# Altium footprint library PcbLib.PcbLib: 44 footprints (part 3 of 3)
Each footprint in its own frame and in the unit in brackets; x right, y up, seen from the top. Pads: shape width x height; smd on the part's side, far side on the other; paste and mask are expansions set on the pad; w line width, h text height; cw(c..) or ccw(c..) is an arc to the next point about the centre after c.
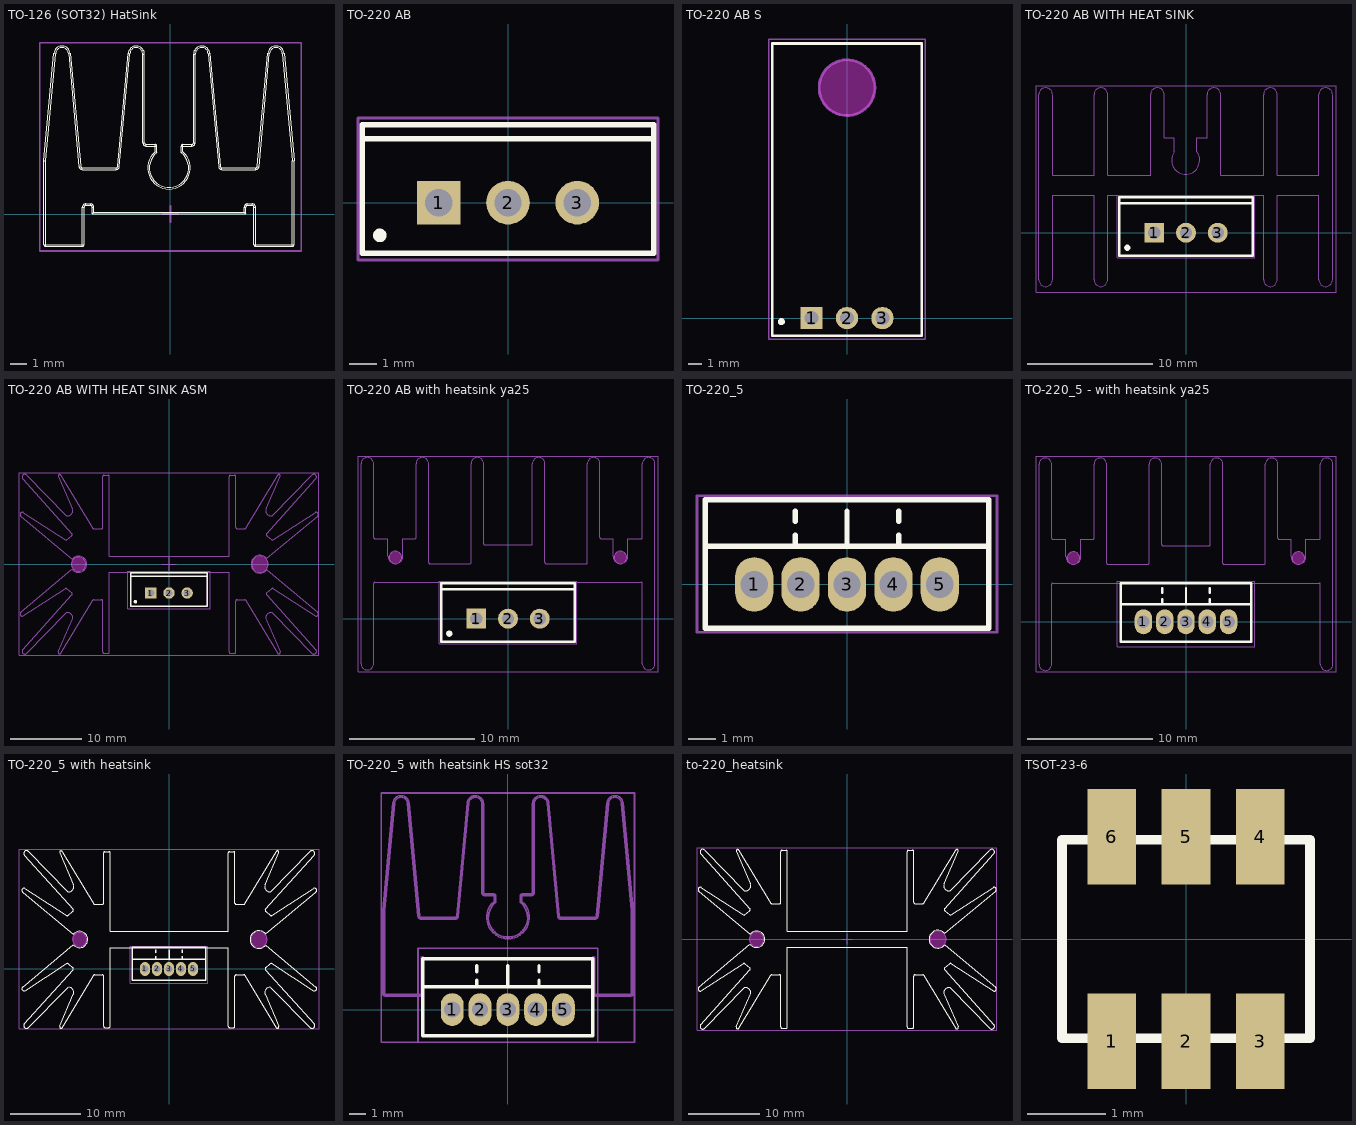
[diagram p2: the footprints below, top view; thin cyan lines are the x and y axes]

## TO-126 (SOT32) HatSink [mm] "Design:Abbas Basereh"
Top Overlay:
  lines w0.013: -7.74,-1.868 ccw(c-7.64,-1.868) -7.64,-1.968 ; -7.74,-1.868 -7.64,-1.868 ; -7.74,-1.868 -7.74,3.282 ; -7.74,3.282 -7.133,9.838 ; -7.74,3.282 -7.64,3.277 ; -7.64,-1.968 -7.64,-1.868 ; -7.64,-1.968 -5.39,-1.968 ; -7.64,-1.868 -7.64,3.277 ; -7.64,-1.868 -5.39,-1.868 ; -7.64,3.277 -7.034,9.829 ; -7.133,9.838 cw(c-6.636,9.792) -6.138,9.838 ; -7.133,9.838 -7.034,9.829 ; -7.034,9.829 cw(c-6.636,9.792) -6.237,9.829 ; -6.237,9.829 -6.138,9.838 ; -6.237,9.829 -5.598,2.914 ; -6.138,9.838 -5.498,2.923 ; -5.598,2.914 ccw(c-5.399,2.932) -5.399,2.732 ; -5.598,2.914 -5.498,2.923 ; -5.498,2.923 ccw(c-5.399,2.932) -5.399,2.832 ; -5.399,2.732 -5.399,2.832 ; -5.399,2.732 -3.327,2.732 ; -5.399,2.832 -3.327,2.832 ; -5.39,-1.968 ccw(c-5.39,-1.868) -5.29,-1.868 ; -5.39,-1.968 -5.39,-1.868 ; -5.39,-1.868 -5.29,-1.868 ; -5.39,-1.868 -5.39,0.432 ; -5.39,0.432 cw(c-5.19,0.432) -5.19,0.632 ; -5.39,0.432 -5.29,0.432 ; -5.29,-1.868 -5.29,0.432 ; -5.29,0.432 cw(c-5.19,0.432) -5.19,0.532 ; -5.19,0.532 -5.19,0.632 ; -5.19,0.532 -4.89,0.532 ; -5.19,0.632 -4.89,0.632 ; -4.89,0.532 cw(c-4.89,0.432) -4.79,0.432 ; -4.89,0.532 -4.89,0.632 ; -4.89,0.632 cw(c-4.89,0.432) -4.69,0.432 ; -4.79,0.032 -4.79,0.432 ; -4.79,0.032 -4.69,0.132 ; -4.79,0.032 4.61,0.032 ; -4.79,0.432 -4.69,0.432 ; -4.69,0.132 -4.69,0.432 ; -4.69,0.132 4.51,0.132 ; -3.327,2.732 ccw(c-3.327,2.932) -3.128,2.914 ; -3.327,2.732 -3.327,2.832 ; -3.327,2.832 ccw(c-3.327,2.932) -3.227,2.923 ; -3.227,2.923 -3.128,2.914 ; -3.227,2.923 -2.588,9.838 ; -3.128,2.914 -2.488,9.829 ; -2.588,9.838 cw(c-2.09,9.792) -1.59,9.792 ; -2.588,9.838 -2.488,9.829 ; -2.488,9.829 cw(c-2.09,9.792) -1.69,9.792 ; -1.69,4.369 ccw(c-1.49,4.369) -1.49,4.169 ; -1.69,4.369 -1.59,4.369 ; -1.69,4.369 -1.69,9.792 ; -1.69,9.792 -1.59,9.792 ; -1.59,4.369 ccw(c-1.49,4.369) -1.49,4.269 ; -1.59,4.369 -1.59,9.792 ; -1.49,4.169 -1.49,4.269 ; -1.49,4.169 -0.94,4.169 ; -1.49,4.269 -0.94,4.269 ; -0.94,3.816 ccw(c-0.09,2.832) 0.76,3.816 ; -0.94,3.816 cw(c-3.386,-1.535) -0.84,3.769 ; -0.94,3.816 -0.94,4.169 ; -0.94,4.169 -0.84,4.169 ; -0.94,4.169 -0.94,4.269 ; -0.94,4.269 cw(c-0.94,4.169) -0.84,4.169 ; -0.84,3.769 ccw(c-0.09,2.832) 0.66,3.769 ; -0.84,3.769 -0.84,4.169 ; 0.66,3.769 cw(c3.206,-1.535) 0.76,3.816 ; 0.66,3.769 0.66,4.169 ; 0.66,4.169 cw(c0.76,4.169) 0.76,4.269 ; 0.66,4.169 0.76,4.169 ; 0.76,3.816 0.76,4.169 ; 0.76,4.169 0.76,4.269 ; 0.76,4.169 1.31,4.169 ; 0.76,4.269 1.31,4.269 ; 1.31,4.169 ccw(c1.31,4.369) 1.51,4.369 ; 1.31,4.169 1.31,4.269 ; 1.31,4.269 ccw(c1.31,4.369) 1.41,4.369 ; 1.41,4.369 1.51,4.369 ; 1.41,4.369 1.41,9.792 ; 1.41,9.792 cw(c1.91,9.792) 2.408,9.838 ; 1.41,9.792 1.51,9.792 ; 1.51,4.369 1.51,9.792 ; 1.51,9.792 cw(c1.91,9.792) 2.308,9.829 ; 2.308,9.829 2.408,9.838 ; 2.308,9.829 2.948,2.914 ; 2.408,9.838 3.047,2.923 ; 2.948,2.914 ccw(c3.147,2.932) 3.147,2.732 ; 2.948,2.914 3.047,2.923 ; 3.047,2.923 ccw(c3.147,2.932) 3.147,2.832 ; 3.147,2.732 3.147,2.832 ; 3.147,2.732 5.219,2.732 ; 3.147,2.832 5.219,2.832 ; 4.51,0.132 4.51,0.432 ; 4.51,0.132 4.61,0.032 ; 4.51,0.432 cw(c4.71,0.432) 4.71,0.632 ; 4.51,0.432 4.61,0.432 ; 4.61,0.032 4.61,0.432 ; 4.61,0.432 cw(c4.71,0.432) 4.71,0.532 ; 4.71,0.532 4.71,0.632 ; 4.71,0.532 5.01,0.532 ; 4.71,0.632 5.01,0.632 ; 5.01,0.532 cw(c5.01,0.432) 5.11,0.432 ; 5.01,0.532 5.01,0.632 ; 5.01,0.632 cw(c5.01,0.432) 5.21,0.432 ; 5.11,-1.868 ccw(c5.21,-1.868) 5.21,-1.968 ; 5.11,-1.868 5.21,-1.868 ; 5.11,-1.868 5.11,0.432 ; 5.11,0.432 5.21,0.432 ; 5.21,-1.968 5.21,-1.868 ; 5.21,-1.968 7.46,-1.968 ; 5.21,-1.868 5.21,0.432 ; 5.21,-1.868 7.46,-1.868 ; 5.219,2.732 ccw(c5.219,2.932) 5.418,2.914 ; 5.219,2.732 5.219,2.832 ; 5.219,2.832 ccw(c5.219,2.932) 5.318,2.923 ; 5.318,2.923 5.418,2.914 ; 5.318,2.923 5.958,9.838 ; 5.418,2.914 6.057,9.829 ; 5.958,9.838 cw(c6.455,9.792) 6.953,9.838 ; 5.958,9.838 6.057,9.829 ; 6.057,9.829 cw(c6.455,9.792) 6.854,9.829 ; 6.854,9.829 6.953,9.838 ; 6.854,9.829 7.46,3.277 ; 6.953,9.838 7.56,3.282 ; 7.46,-1.968 ccw(c7.46,-1.868) 7.56,-1.868 ; 7.46,-1.968 7.46,-1.868 ; 7.46,-1.868 7.46,3.277 ; 7.46,-1.868 7.56,-1.868 ; 7.46,3.277 7.56,3.282 ; 7.56,-1.868 7.56,3.282
Mechanical 15:
  lines w0.1: -0.5,0 0.5,0 ; 0,-0.5 0,0.5 ; -8,-2.25 8,-2.25 8,10.5 -8,10.5 -8,-2.25
3D body "User Library-Heatsink-57AS.STEP": height 25, standoff 0, extent -7.65,-1.905 7.65,10.354

## TO-220 AB [mm] "Epoxy meets UL94, V0-Design:Abbas Basereh"
height 17
pads (3):
  rect 1.6x1.6 hole 1: 1(-2.54,0)
  round 1.6 hole 1: 2(0,0) 3(2.54,0)
Top Overlay:
  circle w0.25: c-4.7,-1.2 r0.125
  lines w0.2: -5.35,2.35 5.35,2.35 ; -5.35,-1.85 5.35,-1.85 5.35,2.85 -5.35,2.85 -5.35,-1.85
Mechanical 13:
  lines w0.1: -5.35,-1.85 -5.35,2.85 5.35,2.85 5.35,-1.85 -5.35,-1.85
Mechanical 15:
  lines w0.1: -0.5,0 0.5,0 ; 0,-0.5 0,0.5 ; -5.5,-2.1 -5.5,3.1 5.5,3.1 5.5,-2.1 -5.5,-2.1
3D body "SW3DPS-TO-220HS-DEFAULT.STEP": height 18.54, standoff -3.81, extent -5.08,-1.651 5.08,2.921

## TO-220 AB S [mm] "Epoxy meets UL94, V0-Design:Abbas Basereh"
height 17
pads (3):
  rect 1.6x1.6 hole 1: 1(-2.54,0)
  round 1.6 hole 1: 2(0,0) 3(2.54,0)
Top Overlay:
  circle w0.25: c-4.699,-0.254 r0.125
  lines w0.2: -5.35,-1.27 5.35,-1.27 5.35,19.685 -5.35,19.685 -5.35,-1.27
Keep-Out Layer:
  board cut-out: -2,16.5 -2,16.697 -1.923,17.083 -1.772,17.447 -1.553,17.775 -1.275,18.053 -0.947,18.272 -0.583,18.423 -0.197,18.5 0.197,18.5 0.583,18.423 0.947,18.272 1.275,18.053 1.553,17.775 1.772,17.447 1.923,17.083 2,16.697 2,16.5 1.999,16.303 1.922,15.917 1.771,15.554 1.552,15.226 1.274,14.948 0.946,14.729 0.583,14.578 0.197,14.5 0,14.5 -0.197,14.5 -0.583,14.577 -0.947,14.728 -1.275,14.947 -1.554,15.225 -1.772,15.553 -1.923,15.917 -2,16.303
Mechanical 1:
  circle w0.2: c0,16.51 r2
Mechanical 13:
  lines w0.1: -5.35,-1.27 -5.35,19.685 5.35,19.685 5.35,-1.27 -5.35,-1.27
Mechanical 15:
  lines w0.1: -0.5,0 0.5,0 ; 0,-0.5 0,0.5 ; -5.6,-1.5 5.6,-1.5 5.6,20 -5.6,20 -5.6,-1.5
3D body "SW3DPS-TO-220-DEFAULT.STEP": height 4.2, standoff -3, extent -5.08,0 5.08,19.49

## TO-220 AB WITH HEAT SINK [mm] "Epoxy meets UL94, V0-Design:Abbas Basereh"
height 17
pads (3):
  rect 1.6x1.6 hole 1: 1(-2.54,0)
  round 1.6 hole 1: 2(0,0) 3(2.54,0)
Top Overlay:
  circle w0.25: c-4.7,-1.2 r0.125
  lines w0.2: -5.35,2.35 5.35,2.35 ; -5.35,-1.85 -5.35,2.85 5.35,2.85 5.35,-1.85 -5.35,-1.85
Mechanical 1:
  lines w0.1: -6.029,2.996 5.971,2.996 ; -11.779,-3.754 ccw(c-11.229,-3.754) -10.679,-3.754 -10.679,2.996 -7.359,2.996 -7.359,-3.754 ccw(c-6.809,-3.754) -6.259,-3.754 -6.259,2.996 6.201,2.996 6.201,-3.754 ccw(c6.751,-3.754) 7.301,-3.754 7.301,2.996 10.621,2.996 10.621,-3.754 ccw(c11.171,-3.754) 11.721,-3.754 11.721,11.046 ccw(c11.171,11.046) 10.621,11.046 10.621,4.596 7.301,4.596 7.301,11.046 ccw(c6.751,11.046) 6.201,11.046 6.201,4.596 2.781,4.596 2.781,11.046 ccw(c2.231,11.046) 1.681,11.046 1.681,7.596 0.871,7.596 0.871,6.471 cw(c-0.029,5.796) -0.929,6.471 -0.929,7.596 -1.739,7.596 -1.739,11.046 ccw(c-2.289,11.046) -2.839,11.046 -2.839,4.596 -6.259,4.596 -6.259,11.046 ccw(c-6.809,11.046) -7.359,11.046 -7.359,4.596 -10.679,4.596 -10.679,11.046 ccw(c-11.229,11.046) -11.779,11.046 -11.779,-3.754
Mechanical 13:
  lines w0.1: -5.35,-1.85 5.35,-1.85 5.35,2.85 -5.35,2.85 -5.35,-1.85
Mechanical 15:
  lines w0.1: -0.5,0 0.5,0 ; 0,-0.5 0,0.5 ; -12,-4.75 12,-4.75 12,11.75 -12,11.75 -12,-4.75 ; -5.5,-2 -5.5,3 5.5,3 5.5,-2 -5.5,-2
3D body "User Library-to-220_heatsink_asm.STEP": height 25, standoff -5.48, extent -11.75,-4.6 11.75,11.3

## TO-220 AB WITH HEAT SINK ASM [mm] "-Design:Abbas Basereh"
pads (3):
  rect 1.6x1.6 hole 1: 1(-2.54,-4.064)
  round 1.6 hole 1: 2(0,-4.064) 3(2.54,-4.064)
Top Overlay:
  circle w0.25: c-4.7,-5.264 r0.125
  lines w0.2: -5.35,-1.714 5.35,-1.714 ; -5.35,-5.914 -5.35,-1.214 5.35,-1.214 5.35,-5.914 -5.35,-5.914
Keep-Out Layer:
  board cut-out: 13.887,-0.029 13.889,0.08 13.851,0.295 13.771,0.498 13.653,0.682 13.502,0.839 13.322,0.964 13.122,1.051 12.909,1.098 12.8,1.1 12.6,1.1 12.497,1.092 12.297,1.037 12.112,0.943 11.948,0.815 11.813,0.658 11.711,0.477 11.647,0.28 11.622,0.075 11.629,-0.029 11.629,-0.14 11.673,-0.358 11.758,-0.564 11.881,-0.749 12.039,-0.906 12.223,-1.029 12.429,-1.114 12.647,-1.158 12.758,-1.158 12.8,-1.158 12.909,-1.156 13.122,-1.109 13.322,-1.022 13.502,-0.897 13.653,-0.74 13.771,-0.556 13.851,-0.353 13.889,-0.138
  board cut-out: -11.663,-0.029 -11.659,0.068 -11.688,0.259 -11.754,0.44 -11.854,0.606 -11.985,0.748 -12.141,0.863 -12.316,0.945 -12.503,0.991 -12.6,0.995 -12.8,0.995 -12.893,0.99 -13.075,0.945 -13.243,0.865 -13.393,0.753 -13.519,0.615 -13.615,0.454 -13.677,0.278 -13.705,0.093 -13.7,0 -13.7,-0.098 -13.662,-0.292 -13.586,-0.474 -13.477,-0.637 -13.337,-0.777 -13.174,-0.886 -12.992,-0.962 -12.798,-1 -12.7,-1 -12.6,-1 -12.508,-1 -12.327,-0.964 -12.156,-0.893 -12.003,-0.791 -11.872,-0.66 -11.77,-0.507 -11.699,-0.336 -11.663,-0.155 -11.663,-0.063
Mechanical 1:
  circle w0.013: c-12.663,-0.029 r1
  circle w0.013: c12.737,-0.029 r1.15
  lines w0.1: -13.589,-0.762 -20.735,-6.764 ccw(c-20.543,-6.994) -20.38,-7.246 -14.529,-3.45 cw(c-14.42,-3.617) -14.292,-3.464 -13.616,-4.027 cw(c-13.745,-4.181) -13.596,-4.314 -20.482,-11.986 ccw(c-20.199,-12.24) -19.927,-12.507 -14.354,-6.827 cw(c-14.189,-7.519) -13.535,-7.802 -15.485,-12.313 ccw(c-15.301,-12.392) -15.13,-12.495 -10.676,-5.096 cw(c-10.505,-5.199) -10.505,-4.999 -9.469,-4.999 cw(c-9.469,-5.199) -9.269,-5.199 -9.269,-12.302 ccw(c-9.069,-12.302) -9.069,-12.502 -8.531,-12.502 ccw(c-8.531,-12.302) -8.331,-12.302 -8.331,-1.174 8.405,-1.174 8.405,-12.302 ccw(c8.605,-12.302) 8.605,-12.502 9.143,-12.502 ccw(c9.143,-12.302) 9.343,-12.302 9.343,-5.199 cw(c9.543,-5.199) 9.543,-4.999 10.579,-4.999 cw(c10.579,-5.199) 10.75,-5.096 15.204,-12.495 ccw(c15.376,-12.392) 15.559,-12.313 13.61,-7.802 cw(c14.263,-7.519) 14.428,-6.827 20.002,-12.507 ccw(c20.273,-12.24) 20.556,-11.986 13.67,-4.314 cw(c13.819,-4.181) 13.691,-4.027 14.366,-3.464 cw(c14.494,-3.617) 14.603,-3.45 20.454,-7.246 ccw(c20.617,-6.994) 20.809,-6.764 13.697,-0.83 cw(c12.737,-0.029) 13.697,0.772 20.809,6.706 ccw(c20.617,6.936) 20.454,7.188 14.603,3.392 cw(c14.494,3.56) 14.366,3.406 13.691,3.969 cw(c13.819,4.123) 13.67,4.257 20.556,11.928 ccw(c20.273,12.182) 20.002,12.449 14.429,6.769 cw(c14.263,7.461) 13.61,7.744 15.559,12.255 ccw(c15.376,12.334) 15.204,12.437 10.75,5.038 cw(c10.579,5.141) 10.579,4.941 9.543,4.941 cw(c9.543,5.141) 9.343,5.141 9.343,12.244 ccw(c9.143,12.244) 9.143,12.444 8.605,12.444 ccw(c8.605,12.244) 8.405,12.244 8.405,1.116 -8.331,1.116 -8.331,12.244 ccw(c-8.531,12.244) -8.531,12.444 -9.069,12.444 ccw(c-9.069,12.244) -9.269,12.244 -9.269,5.141 cw(c-9.469,5.141) -9.469,4.941 -10.505,4.941 cw(c-10.505,5.141) -10.676,5.038 -15.13,12.437 ccw(c-15.301,12.334) -15.485,12.255 -13.535,7.744 cw(c-14.189,7.461) -14.354,6.769 -19.927,12.449 ccw(c-20.199,12.182) -20.482,11.928 -13.596,4.257 cw(c-13.745,4.123) -13.616,3.969 -14.292,3.406 cw(c-14.42,3.56) -14.529,3.392 -20.38,7.188 ccw(c-20.543,6.936) -20.735,6.706 -13.535,0.699 ; -13.565,-0.743 ccw(c-12.663,-0.029) -13.547,0.706
Mechanical 13:
  lines w0.1: -5.35,-5.914 5.35,-5.914 5.35,-1.214 -5.35,-1.214 -5.35,-5.914
Mechanical 15:
  lines w0.1: -1,0 1,0 ; -0.5,-4.064 0.5,-4.064 ; 0,-4.564 0,-3.564 ; 0,-1 0,1 ; -21,-12.75 -21,12.75 21,12.75 21,-12.75 -21,-12.75 ; -5.75,-6.25 -5.75,-1 5.75,-1 5.75,-6.25 -5.75,-6.25
3D body "SW3DPS-TO-220HS-DEFAULT.STEP": height 21.04, standoff -1.31, extent -5.08,-5.842 5.08,-1.27
3D body "User Library-TO220_Heatsink.STEP": height 50.8, standoff -3.5, extent -20.88,-12.592 20.878,12.592

## TO-220 AB with heatsink ya25 [mm] "Epoxy meets UL94, V0-Design:Abbas Basereh"
height 17
pads (3):
  rect 1.6x1.6 hole 1: 1(-2.54,0)
  round 1.6 hole 1: 2(0,0) 3(2.54,0)
Top Overlay:
  circle w0.25: c-4.7,-1.2 r0.125
  lines w0.2: -5.35,2.35 5.35,2.35 ; -5.35,-1.85 5.35,-1.85 5.35,2.85 -5.35,2.85 -5.35,-1.85
Keep-Out Layer:
  board cut-out: -8.5,4.9 -8.5,4.999 -8.576,5.183 -8.717,5.324 -8.901,5.4 -9,5.4 -9.099,5.4 -9.283,5.324 -9.424,5.183 -9.5,4.999 -9.5,4.9 -9.5,4.801 -9.424,4.617 -9.283,4.476 -9.099,4.4 -9,4.4 -8.901,4.4 -8.717,4.476 -8.576,4.617 -8.5,4.801 -8.5,4.9
  board cut-out: 9.5,4.9 9.5,4.999 9.424,5.183 9.283,5.324 9.099,5.4 9,5.4 8.901,5.4 8.717,5.324 8.576,5.183 8.5,4.999 8.5,4.9 8.5,4.801 8.576,4.617 8.717,4.476 8.901,4.4 9,4.4 9.099,4.4 9.283,4.476 9.424,4.617 9.5,4.801 9.5,4.9
Mechanical 1:
  circle w0.1: c-9,4.9 r0.5
  circle w0.1: c9,4.9 r0.5
  lines w0.1: -11.75,-3.6 ccw(c-11.25,-3.6) -11.25,-4.1 ccw(c-11.25,-3.6) -10.75,-3.6 -10.75,2.8 cw(c-10.65,2.8) -10.65,2.9 10.65,2.9 cw(c10.65,2.8) 10.75,2.8 10.75,-3.6 ccw(c11.25,-3.6) 11.25,-4.1 ccw(c11.25,-3.6) 11.75,-3.6 11.75,12.4 ccw(c11.25,12.4) 11.25,12.9 ccw(c11.25,12.4) 10.75,12.4 10.75,6.5 cw(c10.65,6.5) 10.65,6.4 9.6,6.4 9.6,5 cw(c9,5) 9,4.4 cw(c9,5) 8.4,5 8.4,6.4 7.45,6.4 cw(c7.45,6.5) 7.35,6.5 7.35,12.4 ccw(c6.85,12.4) 6.85,12.9 ccw(c6.85,12.4) 6.35,12.4 6.35,4.5 cw(c6.25,4.5) 6.25,4.4 3.05,4.4 cw(c3.05,4.5) 2.95,4.5 2.95,12.4 ccw(c2.45,12.4) 2.45,12.9 ccw(c2.45,12.4) 1.95,12.4 1.95,6 cw(c1.85,6) 1.85,5.9 -1.85,5.9 cw(c-1.85,6) -1.95,6 -1.95,12.4 ccw(c-2.45,12.4) -2.45,12.9 ccw(c-2.45,12.4) -2.95,12.4 -2.95,4.5 cw(c-3.05,4.5) -3.05,4.4 -6.25,4.4 cw(c-6.25,4.5) -6.35,4.5 -6.35,12.4 ccw(c-6.85,12.4) -6.85,12.9 ccw(c-6.85,12.4) -7.35,12.4 -7.35,6.5 cw(c-7.45,6.5) -7.45,6.4 -8.4,6.4 -8.4,5 cw(c-9,5) -9,4.4 cw(c-9,5) -9.6,5 -9.6,6.4 -10.65,6.4 cw(c-10.65,6.5) -10.75,6.5 -10.75,12.4 ccw(c-11.25,12.4) -11.25,12.9 ccw(c-11.25,12.4) -11.75,12.4 -11.75,-3.6
Mechanical 13:
  lines w0.1: -5.35,-1.85 -5.35,2.85 5.35,2.85 5.35,-1.85 -5.35,-1.85
Mechanical 15:
  lines w0.1: -0.5,0 0.5,0 ; 0,-0.5 0,0.5 ; -12,-4.25 -12,13 12,13 12,-4.25 -12,-4.25 ; -5.5,-2 -5.5,3 5.5,3 5.5,-2 -5.5,-2
3D body "User Library-YA25.STEP": height 25, standoff -4, extent -11.75,-4.078 11.75,12.922
3D body "SW3DPS-TO-220HS-DEFAULT.STEP": height 21.04, standoff -1.31, extent -5.08,-1.651 5.08,2.921

## TO-220_5 [mm] "TO-220 STRAIGHT, T05A pitch: 1.7mm-Designer Abbas Basereh"
height 7.62
pads (5):
  oval 1.4x2 hole 1: 1(-3.4,0) 2(-1.7,0) 3(0,0) 4(1.7,0) 5(3.4,0)
Top Overlay:
  lines w0.2: -5.2,1.4 5.2,1.4 ; -1.905,1.424 -1.905,1.805 ; -1.905,2.313 -1.905,2.694 ; 0,1.424 0,2.694 ; 1.905,1.424 1.905,1.805 ; 1.905,2.313 1.905,2.694 ; -5.2,-1.6 5.2,-1.6 5.2,3.1 -5.2,3.1 -5.2,-1.6
Mechanical 15:
  lines w0.1: -5.5,-1.75 5.5,-1.75 5.5,3.25 -5.5,3.25 -5.5,-1.75
3D body "User Library-TO220-5T PCB.step": height 17.05, standoff -6.52, extent -5.06,-1.55 5.06,2.907

## TO-220_5 - with heatsink ya25 [mm] "TO-220 STRAIGHT, T05A pitch: 1.7mm-Designer Abbas Basereh"
height 17.62
pads (5):
  oval 1.4x2 hole 1: 1(-3.4,0) 2(-1.7,0) 3(0,0) 4(1.7,0) 5(3.4,0)
Top Overlay:
  lines w0.2: -5.2,1.4 5.2,1.4 ; -1.905,1.424 -1.905,1.805 ; -1.905,2.313 -1.905,2.694 ; 0,1.424 0,2.694 ; 1.905,1.424 1.905,1.805 ; 1.905,2.313 1.905,2.694 ; -5.2,-1.6 5.2,-1.6 5.2,3.1 -5.2,3.1 -5.2,-1.6
Keep-Out Layer:
  board cut-out: 9.5,5.1 9.5,5.199 9.424,5.383 9.283,5.524 9.099,5.6 9,5.6 8.901,5.6 8.717,5.524 8.576,5.383 8.5,5.199 8.5,5.1 8.5,5.001 8.576,4.817 8.717,4.676 8.901,4.6 9,4.6 9.099,4.6 9.283,4.676 9.424,4.817 9.5,5.001 9.5,5.1
  board cut-out: -8.5,5.1 -8.5,5.199 -8.576,5.383 -8.717,5.524 -8.901,5.6 -9,5.6 -9.099,5.6 -9.283,5.524 -9.424,5.383 -9.5,5.199 -9.5,5.1 -9.5,5.001 -9.424,4.817 -9.283,4.676 -9.099,4.6 -9,4.6 -8.901,4.6 -8.717,4.676 -8.576,4.817 -8.5,5.001 -8.5,5.1
Mechanical 1:
  circle w0.1: c9,5.1 r0.5
  circle w0.1: c-9,5.1 r0.5
  lines w0.1: -11.75,-3.4 ccw(c-11.25,-3.4) -11.25,-3.9 ccw(c-11.25,-3.4) -10.75,-3.4 -10.75,3 cw(c-10.65,3) -10.65,3.1 10.65,3.1 cw(c10.65,3) 10.75,3 10.75,-3.4 ccw(c11.25,-3.4) 11.25,-3.9 ccw(c11.25,-3.4) 11.75,-3.4 11.75,12.6 ccw(c11.25,12.6) 11.25,13.1 ccw(c11.25,12.6) 10.75,12.6 10.75,6.7 cw(c10.65,6.7) 10.65,6.6 9.6,6.6 9.6,5.2 cw(c9,5.2) 9,4.6 cw(c9,5.2) 8.4,5.2 8.4,6.6 7.45,6.6 cw(c7.45,6.7) 7.35,6.7 7.35,12.6 ccw(c6.85,12.6) 6.85,13.1 ccw(c6.85,12.6) 6.35,12.6 6.35,4.7 cw(c6.25,4.7) 6.25,4.6 3.05,4.6 cw(c3.05,4.7) 2.95,4.7 2.95,12.6 ccw(c2.45,12.6) 2.45,13.1 ccw(c2.45,12.6) 1.95,12.6 1.95,6.2 cw(c1.85,6.2) 1.85,6.1 -1.85,6.1 cw(c-1.85,6.2) -1.95,6.2 -1.95,12.6 ccw(c-2.45,12.6) -2.45,13.1 ccw(c-2.45,12.6) -2.95,12.6 -2.95,4.7 cw(c-3.05,4.7) -3.05,4.6 -6.25,4.6 cw(c-6.25,4.7) -6.35,4.7 -6.35,12.6 ccw(c-6.85,12.6) -6.85,13.1 ccw(c-6.85,12.6) -7.35,12.6 -7.35,6.7 cw(c-7.45,6.7) -7.45,6.6 -8.4,6.6 -8.4,5.2 cw(c-9,5.2) -9,4.6 cw(c-9,5.2) -9.6,5.2 -9.6,6.6 -10.65,6.6 cw(c-10.65,6.7) -10.75,6.7 -10.75,12.6 ccw(c-11.25,12.6) -11.25,13.1 ccw(c-11.25,12.6) -11.75,12.6 -11.75,-3.4
Mechanical 15:
  lines w0.1: -12,-4 12,-4 12,13.25 -12,13.25 -12,-4 ; -5.5,-2 5.5,-2 5.5,3.25 -5.5,3.25 -5.5,-2
3D body "User Library-TO220-5T PCB.step": height 21.25, standoff -2.32, extent -5.06,-1.55 5.06,2.907
3D body "User Library-YA25.STEP": height 25, standoff -4, extent -11.75,-3.9 11.75,13.1

## TO-220_5 with heatsink [mm] "TO-220 STRAIGHT, T05A pitch: 1.7mm-Designer Abbas Basereh"
height 15
pads (5):
  oval 1.4x2 hole 1: 1(-3.4,0) 2(-1.7,0) 3(0,0) 4(1.7,0) 5(3.4,0)
Top Overlay:
  lines w0.013: -13.589,3.438 -20.735,-2.564 ccw(c-20.543,-2.794) -20.38,-3.046 -14.529,0.75 cw(c-14.42,0.583) -14.292,0.736 -13.616,0.173 cw(c-13.745,0.019) -13.596,-0.114 -20.482,-7.786 ccw(c-20.199,-8.04) -19.927,-8.307 -14.354,-2.627 cw(c-14.189,-3.319) -13.535,-3.602 -15.485,-8.113 ccw(c-15.301,-8.192) -15.13,-8.295 -10.676,-0.896 cw(c-10.505,-0.999) -10.505,-0.799 -9.469,-0.799 cw(c-9.469,-0.999) -9.269,-0.999 -9.269,-8.102 ccw(c-9.069,-8.102) -9.069,-8.302 -8.531,-8.302 ccw(c-8.531,-8.102) -8.331,-8.102 -8.331,3.026 8.405,3.026 8.405,-8.102 ccw(c8.605,-8.102) 8.605,-8.302 9.143,-8.302 ccw(c9.143,-8.102) 9.343,-8.102 9.343,-0.999 cw(c9.543,-0.999) 9.543,-0.799 10.579,-0.799 cw(c10.579,-0.999) 10.75,-0.896 15.204,-8.295 ccw(c15.376,-8.192) 15.559,-8.113 13.61,-3.602 cw(c14.263,-3.319) 14.428,-2.627 20.002,-8.307 ccw(c20.273,-8.04) 20.556,-7.786 13.67,-0.114 cw(c13.819,0.019) 13.691,0.173 14.366,0.736 cw(c14.494,0.583) 14.603,0.75 20.454,-3.046 ccw(c20.617,-2.794) 20.809,-2.564 13.697,3.37 cw(c12.737,4.171) 13.697,4.972 20.809,10.906 ccw(c20.617,11.136) 20.454,11.388 14.603,7.592 cw(c14.494,7.76) 14.366,7.606 13.691,8.169 cw(c13.819,8.323) 13.67,8.457 20.556,16.128 ccw(c20.273,16.382) 20.002,16.649 14.429,10.969 cw(c14.263,11.661) 13.61,11.944 15.559,16.455 ccw(c15.376,16.534) 15.204,16.637 10.75,9.238 cw(c10.579,9.341) 10.579,9.141 9.543,9.141 cw(c9.543,9.341) 9.343,9.341 9.343,16.444 ccw(c9.143,16.444) 9.143,16.644 8.605,16.644 ccw(c8.605,16.444) 8.405,16.444 8.405,5.316 -8.331,5.316 -8.331,16.444 ccw(c-8.531,16.444) -8.531,16.644 -9.069,16.644 ccw(c-9.069,16.444) -9.269,16.444 -9.269,9.341 cw(c-9.469,9.341) -9.469,9.141 -10.505,9.141 cw(c-10.505,9.341) -10.676,9.238 -15.13,16.637 ccw(c-15.301,16.534) -15.485,16.455 -13.535,11.944 cw(c-14.189,11.661) -14.354,10.969 -19.927,16.649 ccw(c-20.199,16.382) -20.482,16.128 -13.596,8.457 cw(c-13.745,8.323) -13.616,8.169 -14.292,7.606 cw(c-14.42,7.76) -14.529,7.592 -20.38,11.388 ccw(c-20.543,11.136) -20.735,10.906 -13.535,4.899 ; -13.565,3.457 ccw(c-12.663,4.171) -13.547,4.906
  lines w0.2: -5.2,1.4 5.2,1.4 ; -1.905,1.424 -1.905,1.805 ; -1.905,2.313 -1.905,2.694 ; 0,1.424 0,2.694 ; 1.905,1.424 1.905,1.805 ; 1.905,2.313 1.905,2.694 ; -5.2,-1.6 5.2,-1.6 5.2,3.1 -5.2,3.1 -5.2,-1.6
Keep-Out Layer:
  board cut-out: -11.663,4.171 -11.659,4.268 -11.688,4.459 -11.754,4.641 -11.854,4.806 -11.985,4.949 -12.14,5.063 -12.316,5.145 -12.503,5.191 -12.6,5.195 -12.8,5.195 -12.893,5.19 -13.074,5.145 -13.243,5.065 -13.393,4.953 -13.519,4.815 -13.615,4.654 -13.677,4.478 -13.705,4.293 -13.7,4.2 -13.7,4.102 -13.661,3.908 -13.586,3.726 -13.477,3.563 -13.337,3.423 -13.174,3.314 -12.992,3.239 -12.798,3.2 -12.7,3.2 -12.6,3.2 -12.508,3.2 -12.327,3.236 -12.156,3.307 -12.003,3.409 -11.872,3.54 -11.769,3.693 -11.699,3.864 -11.663,4.045 -11.663,4.137
  board cut-out: 13.887,4.171 13.889,4.28 13.851,4.495 13.771,4.698 13.653,4.882 13.502,5.039 13.323,5.164 13.122,5.251 12.909,5.298 12.8,5.3 12.6,5.3 12.497,5.292 12.297,5.237 12.112,5.143 11.948,5.015 11.813,4.858 11.711,4.677 11.647,4.48 11.622,4.275 11.629,4.171 11.629,4.06 11.673,3.842 11.758,3.636 11.881,3.452 12.039,3.294 12.224,3.171 12.429,3.086 12.647,3.042 12.758,3.042 12.8,3.042 12.909,3.044 13.122,3.091 13.323,3.178 13.502,3.303 13.653,3.46 13.771,3.644 13.851,3.847 13.889,4.062
Mechanical 1:
  circle w0.013: c-12.663,4.171 r1
  circle w0.013: c12.737,4.171 r1.15
Mechanical 15:
  lines w0.1: -21.25,-8.5 21.25,-8.5 21.25,17 -21.25,17 -21.25,-8.5 ; -5.5,-2 5.5,-2 5.5,3.25 -5.5,3.25 -5.5,-2
3D body "User Library-TO220-5T PCB.step": height 17.05, standoff -6.52, extent -5.06,-1.55 5.06,2.907
3D body "User Library-TO220_Heatsink.STEP": height 51.8, standoff -2.5, extent -20.88,-8.392 20.878,16.792

## TO-220_5 with heatsink HS sot32 [mm] "TO-220 STRAIGHT, T05A pitch: 1.7mm-Designer Abbas Basereh"
height 7.62
pads (5):
  oval 1.4x2 hole 1: 1(-3.4,0) 2(-1.7,0) 3(0,0) 4(1.7,0) 5(3.4,0)
Top Overlay:
  lines w0.2: -5.2,1.4 5.2,1.4 ; -1.905,1.424 -1.905,1.805 ; -1.905,2.313 -1.905,2.694 ; 0,1.424 0,2.694 ; 1.905,1.424 1.905,1.805 ; 1.905,2.313 1.905,2.694 ; -5.2,-1.6 -5.2,3.1 5.2,3.1 5.2,-1.6 -5.2,-1.6
Mechanical 1:
  lines w0.1: -5.29,3.232 -5.29,0.932 ; -5.19,3.232 -5.19,0.932 ; 5.21,3.232 5.21,0.932 ; 5.31,3.232 5.31,0.932 ; -7.64,0.932 ccw(c-7.54,0.932) -7.54,0.832 ; -7.64,0.932 -7.54,0.932 ; -7.64,0.932 -7.64,6.082 ; -7.64,6.082 -7.033,12.638 ; -7.64,6.082 -7.54,6.077 ; -7.54,0.832 -7.54,0.932 ; -7.54,0.832 -5.29,0.832 ; -7.54,0.932 -7.54,6.077 ; -7.54,0.932 -5.29,0.932 ; -7.54,6.077 -6.934,12.629 ; -7.033,12.638 cw(c-6.536,12.592) -6.038,12.638 ; -7.033,12.638 -6.934,12.629 ; -6.934,12.629 cw(c-6.536,12.592) -6.137,12.629 ; -6.137,12.629 -6.038,12.638 ; -6.137,12.629 -5.498,5.714 ; -6.038,12.638 -5.398,5.723 ; -5.498,5.714 ccw(c-5.299,5.732) -5.299,5.532 ; -5.498,5.714 -5.398,5.723 ; -5.398,5.723 ccw(c-5.299,5.732) -5.299,5.632 ; -5.299,5.532 -5.299,5.632 ; -5.299,5.532 -3.227,5.532 ; -5.299,5.632 -3.227,5.632 ; -5.29,0.832 ccw(c-5.29,0.932) -5.19,0.932 ; -5.29,0.832 -5.29,0.932 ; -5.29,0.932 -5.19,0.932 ; -3.227,5.532 ccw(c-3.227,5.732) -3.028,5.714 ; -3.227,5.532 -3.227,5.632 ; -3.227,5.632 ccw(c-3.227,5.732) -3.127,5.723 ; -3.127,5.723 -3.028,5.714 ; -3.127,5.723 -2.488,12.638 ; -3.028,5.714 -2.388,12.629 ; -2.488,12.638 cw(c-1.99,12.592) -1.49,12.592 ; -2.488,12.638 -2.388,12.629 ; -2.388,12.629 cw(c-1.99,12.592) -1.59,12.592 ; -1.59,7.169 ccw(c-1.39,7.169) -1.39,6.969 ; -1.59,7.169 -1.49,7.169 ; -1.59,7.169 -1.59,12.592 ; -1.59,12.592 -1.49,12.592 ; -1.49,7.169 ccw(c-1.39,7.169) -1.39,7.069 ; -1.49,7.169 -1.49,12.592 ; -1.39,6.969 -1.39,7.069 ; -1.39,6.969 -0.84,6.969 ; -1.39,7.069 -0.84,7.069 ; -0.84,6.616 ccw(c0.01,5.632) 0.86,6.616 ; -0.84,6.616 cw(c-3.286,1.265) -0.74,6.569 ; -0.84,6.616 -0.84,6.969 ; -0.84,6.969 -0.74,6.969 ; -0.84,6.969 -0.84,7.069 ; -0.84,7.069 cw(c-0.84,6.969) -0.74,6.969 ; -0.74,6.569 ccw(c0.01,5.632) 0.76,6.569 ; -0.74,6.569 -0.74,6.969 ; 0.76,6.569 cw(c3.306,1.265) 0.86,6.616 ; 0.76,6.569 0.76,6.969 ; 0.76,6.969 cw(c0.86,6.969) 0.86,7.069 ; 0.76,6.969 0.86,6.969 ; 0.86,6.616 0.86,6.969 ; 0.86,6.969 0.86,7.069 ; 0.86,6.969 1.41,6.969 ; 0.86,7.069 1.41,7.069 ; 1.41,6.969 ccw(c1.41,7.169) 1.61,7.169 ; 1.41,6.969 1.41,7.069 ; 1.41,7.069 ccw(c1.41,7.169) 1.51,7.169 ; 1.51,7.169 1.61,7.169 ; 1.51,7.169 1.51,12.592 ; 1.51,12.592 cw(c2.01,12.592) 2.508,12.638 ; 1.51,12.592 1.61,12.592 ; 1.61,7.169 1.61,12.592 ; 1.61,12.592 cw(c2.01,12.592) 2.408,12.629 ; 2.408,12.629 2.508,12.638 ; 2.408,12.629 3.048,5.714 ; 2.508,12.638 3.147,5.723 ; 3.048,5.714 ccw(c3.247,5.732) 3.247,5.532 ; 3.048,5.714 3.147,5.723 ; 3.147,5.723 ccw(c3.247,5.732) 3.247,5.632 ; 3.247,5.532 3.247,5.632 ; 3.247,5.532 5.319,5.532 ; 3.247,5.632 5.319,5.632 ; 5.21,0.932 ccw(c5.31,0.932) 5.31,0.832 ; 5.21,0.932 5.31,0.932 ; 5.31,0.832 5.31,0.932 ; 5.31,0.832 7.56,0.832 ; 5.31,0.932 7.56,0.932 ; 5.319,5.532 ccw(c5.319,5.732) 5.518,5.714 ; 5.319,5.532 5.319,5.632 ; 5.319,5.632 ccw(c5.319,5.732) 5.418,5.723 ; 5.418,5.723 5.518,5.714 ; 5.418,5.723 6.058,12.638 ; 5.518,5.714 6.157,12.629 ; 6.058,12.638 cw(c6.555,12.592) 7.053,12.638 ; 6.058,12.638 6.157,12.629 ; 6.157,12.629 cw(c6.555,12.592) 6.954,12.629 ; 6.954,12.629 7.053,12.638 ; 6.954,12.629 7.56,6.077 ; 7.053,12.638 7.66,6.082 ; 7.56,0.832 ccw(c7.56,0.932) 7.66,0.932 ; 7.56,0.832 7.56,0.932 ; 7.56,0.932 7.56,6.077 ; 7.56,0.932 7.66,0.932 ; 7.56,6.077 7.66,6.082 ; 7.66,0.932 7.66,6.082
Mechanical 15:
  lines w0.1: -5.5,-2 -5.5,3.75 5.5,3.75 5.5,-2 ; -5.5,-2 5.5,-2 ; -5.5,-2 -7.75,-2 -7.75,13.25 7.75,13.25 7.75,-2 5.5,-2
3D body "User Library-TO220-5T PCB.step": height 20.05, standoff -3.52, extent -5.06,-1.55 5.06,2.907
3D body "User Library-Heatsink-57AS.STEP": height 25, standoff 0, extent -7.55,0.895 7.75,13.155

## to-220_heatsink [mm] "-Design:Abbas Basereh"
Top Overlay:
  lines w0.013: -13.589,-0.762 -20.735,-6.764 ccw(c-20.543,-6.994) -20.38,-7.246 -14.529,-3.45 cw(c-14.42,-3.617) -14.292,-3.464 -13.617,-4.027 cw(c-13.745,-4.181) -13.596,-4.314 -20.482,-11.986 ccw(c-20.199,-12.24) -19.928,-12.507 -14.354,-6.827 cw(c-14.189,-7.519) -13.535,-7.802 -15.485,-12.313 ccw(c-15.302,-12.392) -15.13,-12.495 -10.676,-5.096 cw(c-10.505,-5.199) -10.505,-4.999 -9.469,-4.999 cw(c-9.469,-5.199) -9.269,-5.199 -9.269,-12.302 ccw(c-9.069,-12.302) -9.069,-12.502 -8.531,-12.502 ccw(c-8.531,-12.302) -8.331,-12.302 -8.331,-1.174 8.405,-1.174 8.405,-12.302 ccw(c8.605,-12.302) 8.605,-12.502 9.143,-12.502 ccw(c9.143,-12.302) 9.343,-12.302 9.343,-5.199 cw(c9.543,-5.199) 9.543,-4.999 10.579,-4.999 cw(c10.579,-5.199) 10.75,-5.096 15.204,-12.495 ccw(c15.376,-12.392) 15.559,-12.313 13.609,-7.802 cw(c14.263,-7.519) 14.428,-6.827 20.002,-12.507 ccw(c20.273,-12.24) 20.556,-11.986 13.67,-4.314 cw(c13.819,-4.181) 13.691,-4.027 14.366,-3.464 cw(c14.494,-3.617) 14.603,-3.45 20.454,-7.246 ccw(c20.617,-6.994) 20.809,-6.764 13.697,-0.83 cw(c12.737,-0.029) 13.697,0.772 20.809,6.706 ccw(c20.617,6.936) 20.454,7.188 14.603,3.392 cw(c14.494,3.559) 14.366,3.406 13.691,3.969 cw(c13.819,4.123) 13.67,4.256 20.556,11.928 ccw(c20.273,12.182) 20.002,12.449 14.428,6.769 cw(c14.263,7.461) 13.609,7.744 15.559,12.255 ccw(c15.376,12.334) 15.204,12.437 10.75,5.038 cw(c10.579,5.141) 10.579,4.941 9.543,4.941 cw(c9.543,5.141) 9.343,5.141 9.343,12.244 ccw(c9.143,12.244) 9.143,12.444 8.605,12.444 ccw(c8.605,12.244) 8.405,12.244 8.405,1.116 -8.331,1.116 -8.331,12.244 ccw(c-8.531,12.244) -8.531,12.444 -9.069,12.444 ccw(c-9.069,12.244) -9.269,12.244 -9.269,5.141 cw(c-9.469,5.141) -9.469,4.941 -10.505,4.941 cw(c-10.505,5.141) -10.676,5.038 -15.13,12.437 ccw(c-15.302,12.334) -15.485,12.255 -13.535,7.744 cw(c-14.189,7.461) -14.354,6.769 -19.928,12.449 ccw(c-20.199,12.182) -20.482,11.928 -13.596,4.256 cw(c-13.745,4.123) -13.617,3.969 -14.292,3.406 cw(c-14.42,3.559) -14.529,3.392 -20.38,7.188 ccw(c-20.543,6.936) -20.735,6.706 -13.536,0.699 ; -13.565,-0.743 ccw(c-12.663,-0.029) -13.547,0.706
Keep-Out Layer:
  board cut-out: 13.887,-0.029 13.889,0.08 13.851,0.295 13.771,0.498 13.653,0.682 13.502,0.839 13.322,0.964 13.122,1.051 12.909,1.098 12.8,1.1 12.6,1.1 12.497,1.092 12.297,1.037 12.112,0.943 11.948,0.815 11.813,0.658 11.711,0.477 11.647,0.28 11.622,0.075 11.629,-0.029 11.629,-0.14 11.673,-0.358 11.758,-0.564 11.881,-0.749 12.039,-0.906 12.223,-1.029 12.429,-1.114 12.647,-1.158 12.758,-1.158 12.8,-1.158 12.909,-1.156 13.122,-1.109 13.322,-1.022 13.502,-0.897 13.653,-0.74 13.771,-0.556 13.851,-0.353 13.889,-0.138
  board cut-out: -11.663,-0.029 -11.659,0.068 -11.688,0.259 -11.754,0.44 -11.854,0.606 -11.985,0.748 -12.141,0.863 -12.316,0.945 -12.503,0.991 -12.6,0.995 -12.8,0.995 -12.893,0.99 -13.075,0.945 -13.243,0.865 -13.393,0.753 -13.519,0.615 -13.615,0.454 -13.677,0.278 -13.705,0.093 -13.7,0 -13.7,-0.098 -13.662,-0.292 -13.586,-0.474 -13.477,-0.637 -13.337,-0.777 -13.174,-0.886 -12.992,-0.962 -12.798,-1 -12.7,-1 -12.6,-1 -12.508,-1 -12.327,-0.964 -12.156,-0.893 -12.003,-0.791 -11.872,-0.66 -11.77,-0.507 -11.699,-0.336 -11.663,-0.155 -11.663,-0.063
Mechanical 1:
  circle w0.013: c12.737,-0.029 r1.15
  circle w0.013: c-12.663,-0.029 r1
Mechanical 15:
  lines w0.1: -0.75,0 0.75,0 ; 0,-0.75 0,0.75 ; -21,-12.75 21,-12.75 21,12.75 -21,12.75 -21,-12.75
3D body "User Library-TO220_Heatsink.STEP": height 50.8, standoff -3.5, extent -20.88,-12.592 20.878,12.592

## TSOT-23-6 [mm]
pads (6):
  rect 0.622x1.22 smd: 1(-0.95,-1.31) 2(0,-1.31) 3(0.95,-1.31) 4(0.95,1.31) 5(0,1.31) 6(-0.95,1.31)
Top Overlay:
  lines w0.127: -1.587,-1.27 1.587,-1.27 1.587,1.27 -1.587,1.27 -1.587,-1.27